# EAGLE library part DRV8825 (library motor_driver)
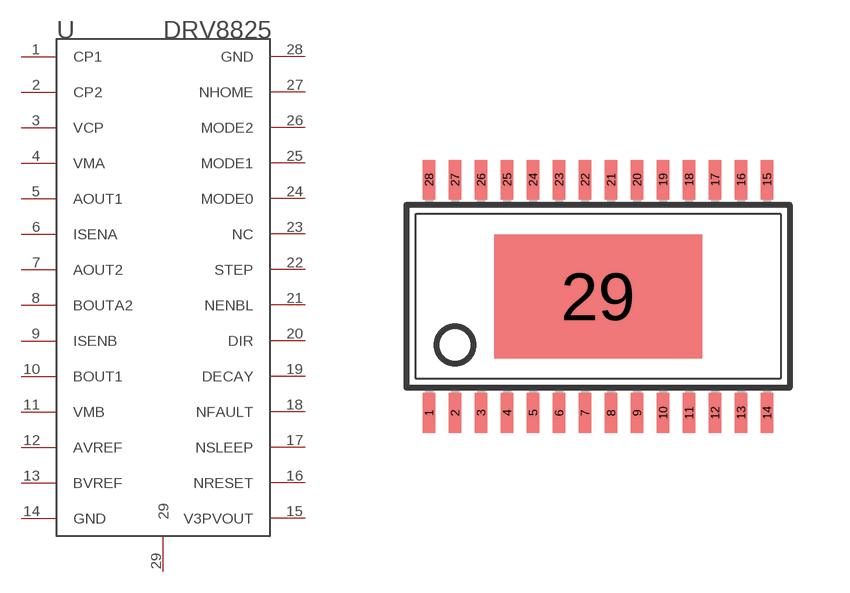
[diagram p1: symbol with the pads of HTSSOP28; footprint HTSSOP28]

Designator prefix -

## DRV8825TSSOP  [HTSSOP28]
1  CP1
2  CP2
3  VCP
4  VMA
5  AOUT1
6  ISENA
7  AOUT2
8  BOUTA2
9  ISENB
10  BOUT1
11  VMB
12  AVREF
13  BVREF
14  GND
15  V3PVOUT
16  NRESET
17  NSLEEP
18  NFAULT
19  DECAY
20  DIR
21  NENBL
22  STEP
23  NC
24  MODE0
25  MODE1
26  MODE2
27  NHOME
28  GND
29  29

## Footprint HTSSOP28 (pad centres in mm)
smd 0.305 x 0.991: 1 -4.225,-2.918; 2 -3.575,-2.918; 3 -2.925,-2.918; 4 -2.275,-2.918; 5 -1.625,-2.918; 6 -0.975,-2.918; 7 -0.325,-2.918; 8 0.325,-2.918; 9 0.975,-2.918; 10 1.625,-2.918; 11 2.275,-2.918; 12 2.925,-2.918; 13 3.575,-2.918; 14 4.225,-2.918; 15 4.225,2.918; 16 3.575,2.918; 17 2.925,2.918; 18 2.275,2.918; 19 1.625,2.918; 20 0.975,2.918; 21 0.325,2.918; 22 -0.325,2.918; 23 -0.975,2.918; 24 -1.625,2.918; 25 -2.275,2.918; 26 -2.925,2.918; 27 -3.575,2.918; 28 -4.225,2.918
smd 5.2 x 3.1: 29 0,0